# EAGLE library part 5-33REGULATOR (library IC, old5-33Regulator)
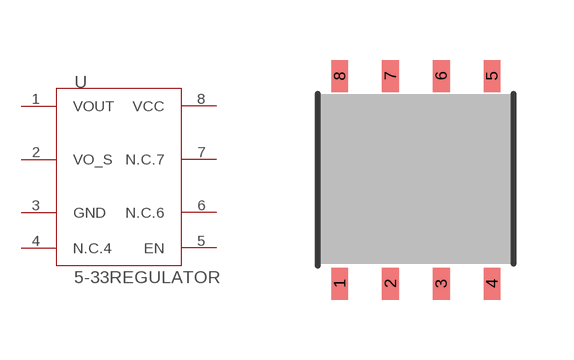
[diagram p0: symbol with the pads of VOLTAGEREGULATOR; footprint VOLTAGEREGULATOR]

Designator prefix -

## 5-33REGULATOR  [VOLTAGEREGULATOR]
1  VOUT
2  VO_S
3  GND
4  N.C.4
5  EN
6  N.C.6
7  N.C.7
8  VCC

## Footprint VOLTAGEREGULATOR (pad centres in mm)
smd 0.42 x 0.8: 1 0,0; 2 1.27,0; 3 2.54,0; 4 3.81,0; 5 3.81,5.2; 6 2.54,5.2; 7 1.27,5.2; 8 0,5.2